# Altium footprint library Diod.PcbLib: 392 footprints (part 12 of 25)
Each footprint in its own frame and in the unit in brackets; x right, y up, seen from the top. Pads: shape width x height; smd on the part's side, far side on the other; paste and mask are expansions set on the pad; w line width, h text height; cw(c..) or ccw(c..) is an arc to the next point about the centre after c.
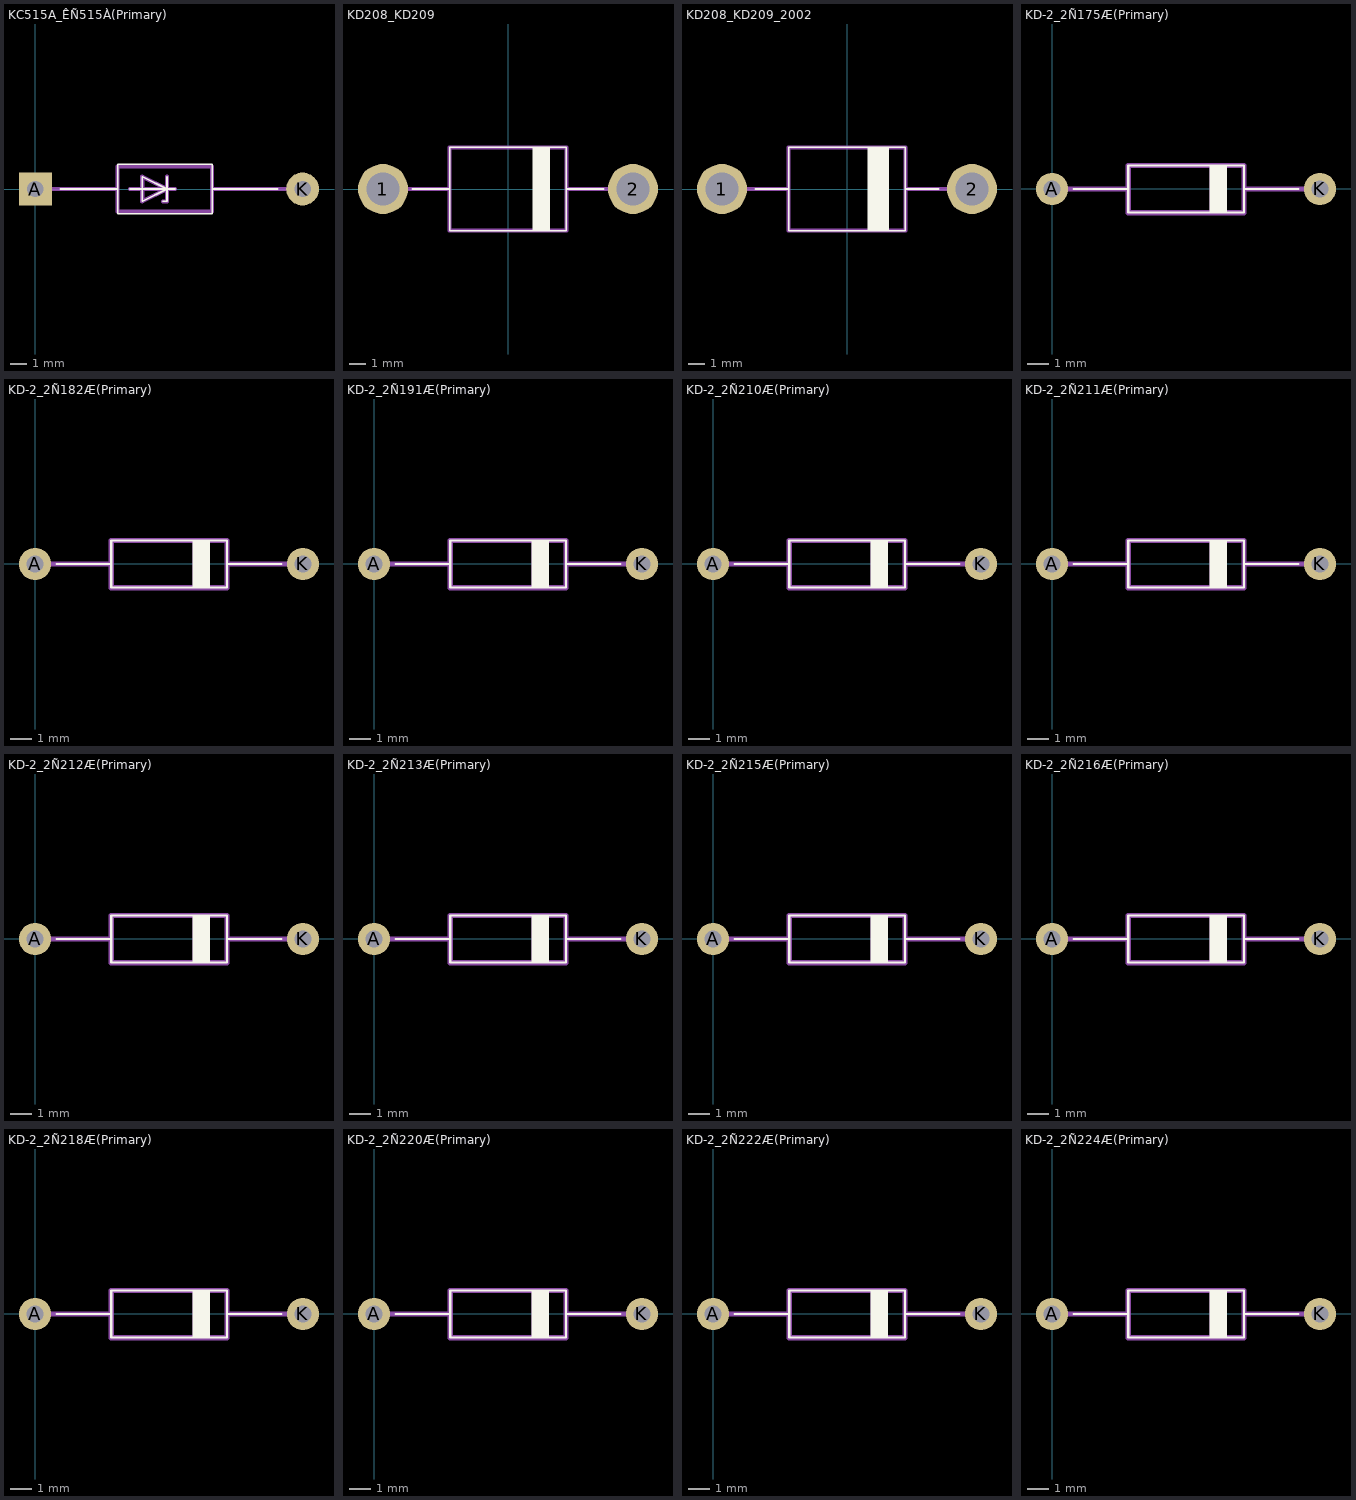
[diagram p11: the footprints below, top view; thin cyan lines are the x and y axes]

## KC515A_ÊÑ515À(Primary) [mm]
pads (2):
  rect 2x2 hole 1: A(0,0)
  round 2 hole 1: K(16.25,0)
Top Overlay:
  lines w0.1: 1.5,0 5,0 ; 5.75,0 8.5,0 ; 7.75,-0.75 8,-0.75 8,0.75 ; 10.75,0 14.75,0 ; 5,0 5,1.5 10.75,1.5 10.75,-1.5 5,-1.5 5,0 ; 6.5,-0.75 8,0 6.5,0.75 6.5,-0.75
Mechanical 1:
  lines w0.25: 0,0 5,0 ; 5.75,0 8.5,0 ; 7.75,-0.75 8,-0.75 8,0.75 ; 10.75,0 16.25,0 ; 5,-1.375 10.75,-1.375 10.75,1.375 5,1.375 5,-1.375 ; 6.5,-0.75 8,0 6.5,0.75 6.5,-0.75

## KD208_KD209 [mm]
pads (2):
  round 3 hole 2: 1(-7.5,0) 2(7.5,0)
Top Overlay:
  region: 1.5,-2.5 2.5,-2.5 2.5,2.5 1.5,2.5
  lines w0.1: -5.75,0 -3.5,0 ; 3.5,0 5.75,0 ; -3.5,-2.5 3.5,-2.5 3.5,2.5 -3.5,2.5 -3.5,-2.5
Mechanical 1:
  lines w0.25: -7.5,0 -3.5,0 ; 7.5,0 3.5,0 ; -3.5,0 -3.5,2.5 3.5,2.5 3.5,0 ; -3.5,0 -3.5,-2.5 3.5,-2.5 3.5,0

## KD208_KD209_2002 [mm]
pads (2):
  round 3 hole 2: 1(-7.5,0) 2(7.5,0)
Top Overlay:
  region: 1.25,2.5 1.25,-2.5 2.5,-2.5 2.5,2.5
  lines w0.1: -5.5,0 -3.5,0 ; 3.5,0 5.5,0 ; -3.5,-2.5 3.5,-2.5 3.5,2.5 -3.5,2.5 -3.5,-2.5
Mechanical 1:
  lines w0.25: -7.5,0 -3.5,0 ; 3.5,0 7.5,0 ; -3.5,0 -3.5,2.5 3.5,2.5 3.5,-2.5 -3.5,-2.5 -3.5,0

## KD-2_2Ñ175Æ(Primary) [mm]
pads (2):
  round 1.5 hole 0.8: A(0,0) K(12.5,0)
Top Overlay:
  region: 7.35,1.1 7.35,-1.1 8.15,-1.1 8.15,1.1
  lines w0.1: 1,0 3.558,0 ; 8.958,0 11.5,0 ; 3.558,-1.1 8.958,-1.1 8.958,1.1 3.558,1.1 3.558,-1.1
Mechanical 1:
  region: 7.35,1.1 7.35,-1.1 8.15,-1.1 8.15,1.1
  lines w0.25: 0.008,0 3.558,0 ; 8.958,0 12.508,0 ; 3.558,-1.1 8.958,-1.1 8.958,1.1 3.558,1.1 3.558,-1.1

## KD-2_2Ñ182Æ(Primary) [mm]
pads (2):
  round 1.5 hole 0.8: A(0,0) K(12.5,0)
Top Overlay:
  region: 7.35,1.1 7.35,-1.1 8.15,-1.1 8.15,1.1
  lines w0.1: 1,0 3.558,0 ; 8.958,0 11.5,0 ; 3.558,-1.1 8.958,-1.1 8.958,1.1 3.558,1.1 3.558,-1.1
Mechanical 1:
  region: 7.35,1.1 7.35,-1.1 8.15,-1.1 8.15,1.1
  lines w0.25: 0.008,0 3.558,0 ; 8.958,0 12.508,0 ; 3.558,-1.1 8.958,-1.1 8.958,1.1 3.558,1.1 3.558,-1.1

## KD-2_2Ñ191Æ(Primary) [mm]
pads (2):
  round 1.5 hole 0.8: A(0,0) K(12.5,0)
Top Overlay:
  region: 7.35,1.1 7.35,-1.1 8.15,-1.1 8.15,1.1
  lines w0.1: 1,0 3.558,0 ; 8.958,0 11.5,0 ; 3.558,-1.1 8.958,-1.1 8.958,1.1 3.558,1.1 3.558,-1.1
Mechanical 1:
  region: 7.35,1.1 7.35,-1.1 8.15,-1.1 8.15,1.1
  lines w0.25: 0.008,0 3.558,0 ; 8.958,0 12.508,0 ; 3.558,-1.1 8.958,-1.1 8.958,1.1 3.558,1.1 3.558,-1.1

## KD-2_2Ñ210Æ(Primary) [mm]
pads (2):
  round 1.5 hole 0.8: A(0,0) K(12.5,0)
Top Overlay:
  region: 7.35,1.1 7.35,-1.1 8.15,-1.1 8.15,1.1
  lines w0.1: 1,0 3.558,0 ; 8.958,0 11.5,0 ; 3.558,-1.1 8.958,-1.1 8.958,1.1 3.558,1.1 3.558,-1.1
Mechanical 1:
  region: 7.35,1.1 7.35,-1.1 8.15,-1.1 8.15,1.1
  lines w0.25: 0.008,0 3.558,0 ; 8.958,0 12.508,0 ; 3.558,-1.1 8.958,-1.1 8.958,1.1 3.558,1.1 3.558,-1.1

## KD-2_2Ñ211Æ(Primary) [mm]
pads (2):
  round 1.5 hole 0.8: A(0,0) K(12.5,0)
Top Overlay:
  region: 7.35,1.1 7.35,-1.1 8.15,-1.1 8.15,1.1
  lines w0.1: 1,0 3.558,0 ; 8.958,0 11.5,0 ; 3.558,-1.1 8.958,-1.1 8.958,1.1 3.558,1.1 3.558,-1.1
Mechanical 1:
  region: 7.35,1.1 7.35,-1.1 8.15,-1.1 8.15,1.1
  lines w0.25: 0.008,0 3.558,0 ; 8.958,0 12.508,0 ; 3.558,-1.1 8.958,-1.1 8.958,1.1 3.558,1.1 3.558,-1.1

## KD-2_2Ñ212Æ(Primary) [mm]
pads (2):
  round 1.5 hole 0.8: A(0,0) K(12.5,0)
Top Overlay:
  region: 7.35,1.1 7.35,-1.1 8.15,-1.1 8.15,1.1
  lines w0.1: 1,0 3.558,0 ; 8.958,0 11.5,0 ; 3.558,-1.1 8.958,-1.1 8.958,1.1 3.558,1.1 3.558,-1.1
Mechanical 1:
  region: 7.35,1.1 7.35,-1.1 8.15,-1.1 8.15,1.1
  lines w0.25: 0.008,0 3.558,0 ; 8.958,0 12.508,0 ; 3.558,-1.1 8.958,-1.1 8.958,1.1 3.558,1.1 3.558,-1.1

## KD-2_2Ñ213Æ(Primary) [mm]
pads (2):
  round 1.5 hole 0.8: A(0,0) K(12.5,0)
Top Overlay:
  region: 7.35,1.1 7.35,-1.1 8.15,-1.1 8.15,1.1
  lines w0.1: 1,0 3.558,0 ; 8.958,0 11.5,0 ; 3.558,-1.1 8.958,-1.1 8.958,1.1 3.558,1.1 3.558,-1.1
Mechanical 1:
  region: 7.35,1.1 7.35,-1.1 8.15,-1.1 8.15,1.1
  lines w0.25: 0.008,0 3.558,0 ; 8.958,0 12.508,0 ; 3.558,-1.1 8.958,-1.1 8.958,1.1 3.558,1.1 3.558,-1.1

## KD-2_2Ñ215Æ(Primary) [mm]
pads (2):
  round 1.5 hole 0.8: A(0,0) K(12.5,0)
Top Overlay:
  region: 7.35,1.1 7.35,-1.1 8.15,-1.1 8.15,1.1
  lines w0.1: 1,0 3.558,0 ; 8.958,0 11.5,0 ; 3.558,-1.1 8.958,-1.1 8.958,1.1 3.558,1.1 3.558,-1.1
Mechanical 1:
  region: 7.35,1.1 7.35,-1.1 8.15,-1.1 8.15,1.1
  lines w0.25: 0.008,0 3.558,0 ; 8.958,0 12.508,0 ; 3.558,-1.1 8.958,-1.1 8.958,1.1 3.558,1.1 3.558,-1.1

## KD-2_2Ñ216Æ(Primary) [mm]
pads (2):
  round 1.5 hole 0.8: A(0,0) K(12.5,0)
Top Overlay:
  region: 7.35,1.1 7.35,-1.1 8.15,-1.1 8.15,1.1
  lines w0.1: 1,0 3.558,0 ; 8.958,0 11.5,0 ; 3.558,-1.1 8.958,-1.1 8.958,1.1 3.558,1.1 3.558,-1.1
Mechanical 1:
  region: 7.35,1.1 7.35,-1.1 8.15,-1.1 8.15,1.1
  lines w0.25: 0.008,0 3.558,0 ; 8.958,0 12.508,0 ; 3.558,-1.1 8.958,-1.1 8.958,1.1 3.558,1.1 3.558,-1.1

## KD-2_2Ñ218Æ(Primary) [mm]
pads (2):
  round 1.5 hole 0.8: A(0,0) K(12.5,0)
Top Overlay:
  region: 7.35,1.1 7.35,-1.1 8.15,-1.1 8.15,1.1
  lines w0.1: 1,0 3.558,0 ; 8.958,0 11.5,0 ; 3.558,-1.1 8.958,-1.1 8.958,1.1 3.558,1.1 3.558,-1.1
Mechanical 1:
  region: 7.35,1.1 7.35,-1.1 8.15,-1.1 8.15,1.1
  lines w0.25: 0.008,0 3.558,0 ; 8.958,0 12.508,0 ; 3.558,-1.1 8.958,-1.1 8.958,1.1 3.558,1.1 3.558,-1.1

## KD-2_2Ñ220Æ(Primary) [mm]
pads (2):
  round 1.5 hole 0.8: A(0,0) K(12.5,0)
Top Overlay:
  region: 7.35,1.1 7.35,-1.1 8.15,-1.1 8.15,1.1
  lines w0.1: 1,0 3.558,0 ; 8.958,0 11.5,0 ; 3.558,-1.1 8.958,-1.1 8.958,1.1 3.558,1.1 3.558,-1.1
Mechanical 1:
  region: 7.35,1.1 7.35,-1.1 8.15,-1.1 8.15,1.1
  lines w0.25: 0.008,0 3.558,0 ; 8.958,0 12.508,0 ; 3.558,-1.1 8.958,-1.1 8.958,1.1 3.558,1.1 3.558,-1.1

## KD-2_2Ñ222Æ(Primary) [mm]
pads (2):
  round 1.5 hole 0.8: A(0,0) K(12.5,0)
Top Overlay:
  region: 7.35,1.1 7.35,-1.1 8.15,-1.1 8.15,1.1
  lines w0.1: 1,0 3.558,0 ; 8.958,0 11.5,0 ; 3.558,-1.1 8.958,-1.1 8.958,1.1 3.558,1.1 3.558,-1.1
Mechanical 1:
  region: 7.35,1.1 7.35,-1.1 8.15,-1.1 8.15,1.1
  lines w0.25: 0.008,0 3.558,0 ; 8.958,0 12.508,0 ; 3.558,-1.1 8.958,-1.1 8.958,1.1 3.558,1.1 3.558,-1.1

## KD-2_2Ñ224Æ(Primary) [mm]
pads (2):
  round 1.5 hole 0.8: A(0,0) K(12.5,0)
Top Overlay:
  region: 7.35,1.1 7.35,-1.1 8.15,-1.1 8.15,1.1
  lines w0.1: 1,0 3.558,0 ; 8.958,0 11.5,0 ; 3.558,-1.1 8.958,-1.1 8.958,1.1 3.558,1.1 3.558,-1.1
Mechanical 1:
  region: 7.35,1.1 7.35,-1.1 8.15,-1.1 8.15,1.1
  lines w0.25: 0.008,0 3.558,0 ; 8.958,0 12.508,0 ; 3.558,-1.1 8.958,-1.1 8.958,1.1 3.558,1.1 3.558,-1.1